# Altium schematic symbol library Fiber_Optic.SchLib: 2 symbols
Pins are listed as number, name and electrical type; pins without a type are passive.

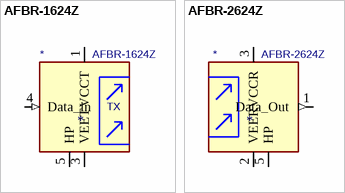
[diagram p0: symbols AFBR-1624Z to AFBR-2624Z]

## AFBR-1624Z
designator *  value AFBR-1624Z
ki_keywords: Fiber optic transmitter; ki_description: Versatile Link Fiber Optic Transmitter; ki_fp_filters: Broadcom*AFBR*16xxZ*; Supplier: https://docs.broadcom.com/docs/AV02-4369EN
pins: 1 VCCT (power), 2 NC (in) hidden, 3 VEET (power), 4 Data_in (in), 5 HP, 8 HP hidden
text: TX

## AFBR-2624Z
designator *  value AFBR-2624Z
ki_keywords: fiber optic receiver; ki_description: Versatile Link Fiber Optic Receiver; ki_fp_filters: Broadcom*AFBR*16xxZ*; Supplier: https://docs.broadcom.com/docs/AV02-4369EN
pins: 1 Data_Out (out), 2 VEER (power), 3 VCCR (power), 4 NC (in) hidden, 5 HP, 8 HP hidden